# Altium schematic symbol library Pin Header WR-PHD_2.54mm.SchLib: 138 symbols (part 1 of 3)
Pins are listed as number, name and electrical type; pins without a type are passive.

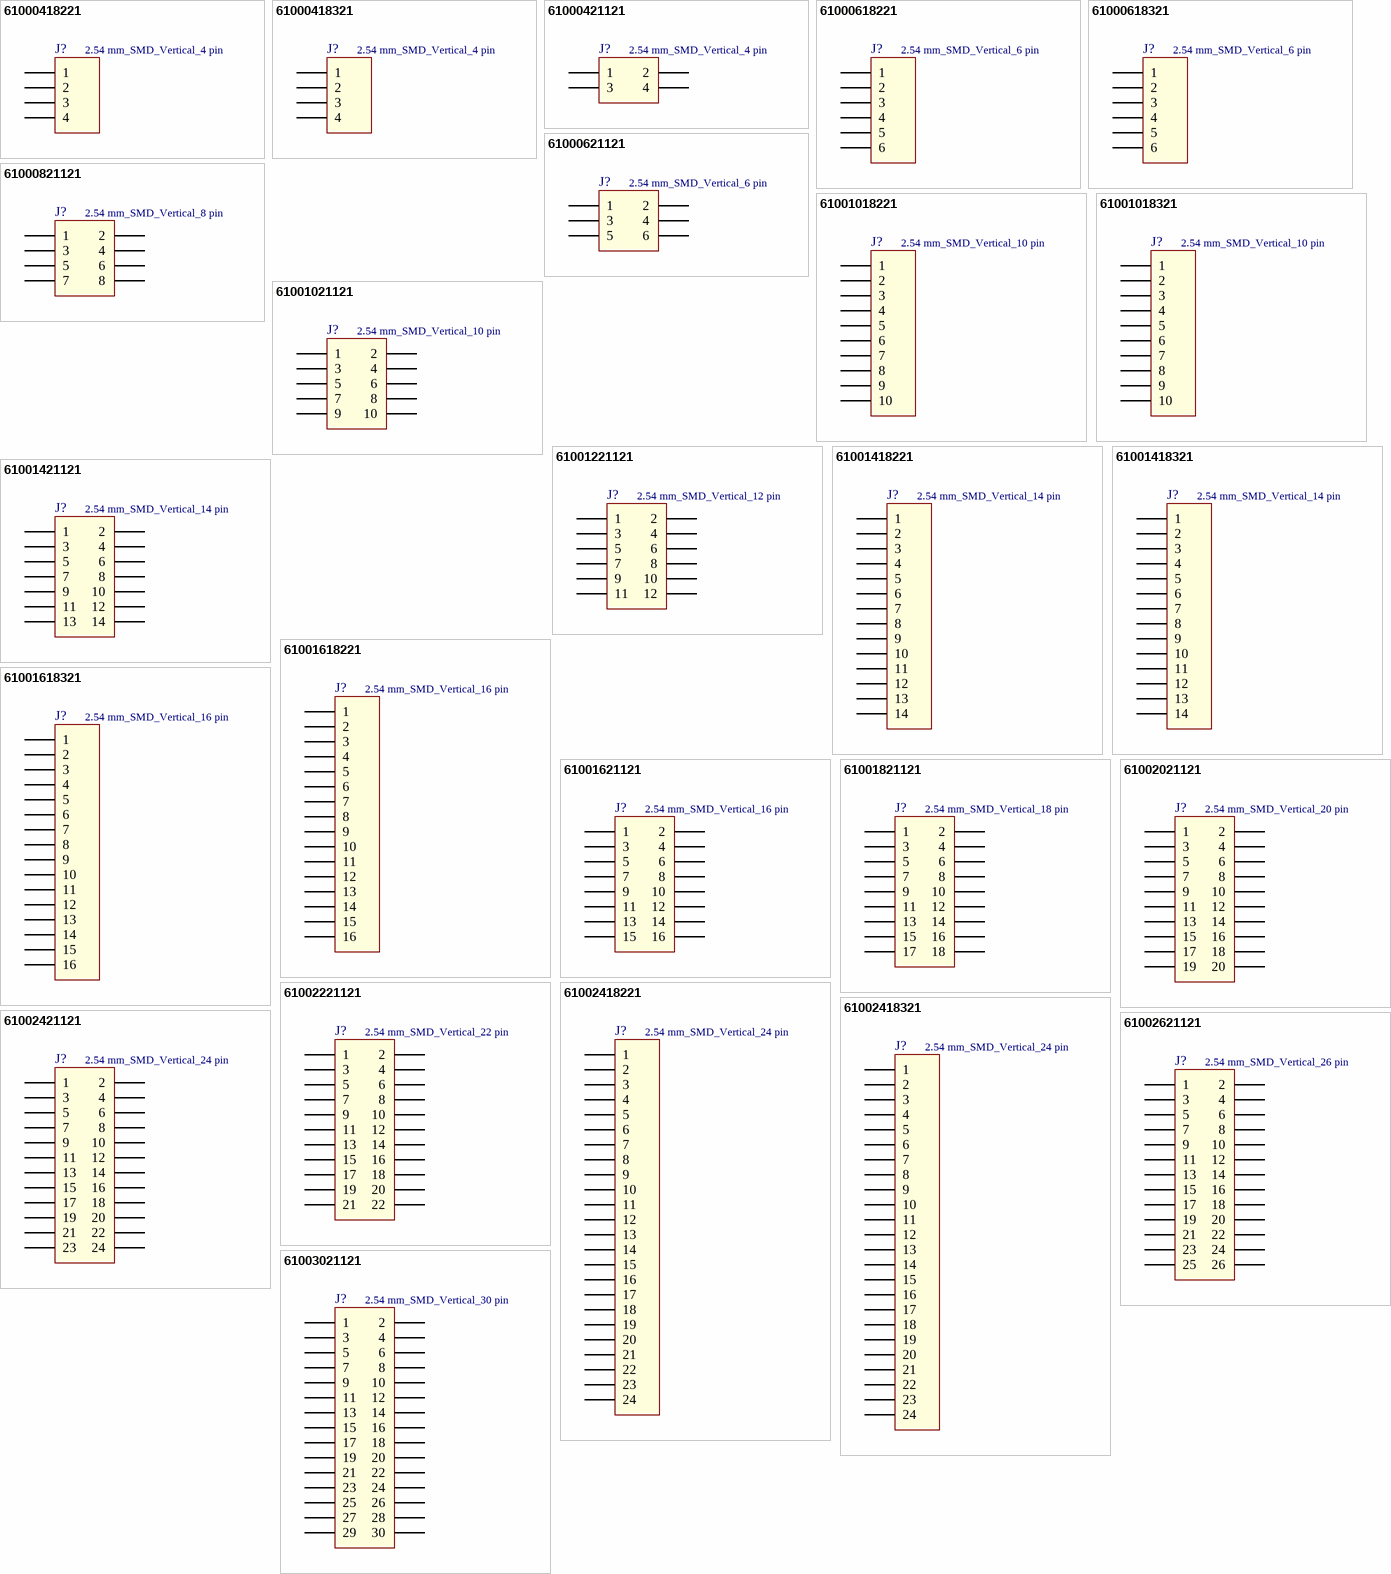
[diagram p0: symbols 61000418221 to 61003021121]

## 61000418221
designator J?, comment 2.54 mm_SMD_Vertical_4 pin
Pin Header WR-PHD, pitch 2.54 mm, SMD, Vertical, single row, 4 pin; Part Number: 61000418221; Rated Current: 3 A; Pin Number: 4; Pitch: 2.54 mm; Working Voltage: 250 VAC; Contact Resistance: 20 mOhm; Insulation Resistance: >1000 MOhm; ComponentLink1Description: Manufacturer; ComponentLink1URL: http://www.we-online.de; ComponentLink2Description: Datasheet; ComponentLink2URL: http://katalog.we-online.de/em/datasheet/6100xx18221.pdf; Published Date: Jan. 2018; Publisher: Wurth Elektronik; Operating Temperature: -40 to 105 degC; Mounting Technology: SMD; Row Number: Single; Orientation: Vertical
footprint 61000418221
pins: 1, 2, 3, 4

## 61000418321
designator J?, comment 2.54 mm_SMD_Vertical_4 pin
Pin Header WR-PHD, pitch 2.54 mm, SMD, Vertical, single row, 4 pin; Part Number: 61000418321; Rated Current: 3 A; Pin Number: 4; Pitch: 2.54 mm; Working Voltage: 250 VAC; Contact Resistance: 20 mOhm; Insulation Resistance: >1000 MOhm; ComponentLink1Description: Manufacturer; ComponentLink1URL: http://www.we-online.de; ComponentLink2Description: Datasheet; ComponentLink2URL: http://katalog.we-online.de/em/datasheet/6100xx18321.pdf; Published Date: Jan. 2018; Publisher: Wurth Elektronik; Operating Temperature: -40 to 105 degC; Mounting Technology: SMD; Row Number: Single; Orientation: Vertical
footprint 61000418321
pins: 1, 2, 3, 4

## 61000421121
designator J?, comment 2.54 mm_SMD_Vertical_4 pin
Pin Header WR-PHD, pitch 2.54 mm, SMD, Vertical, dual row, 4 pin; Part Number: 61000421121; Rated Current: 3 A; Pin Number: 4; Pitch: 2.54 mm; Working Voltage: 250 VAC; Contact Resistance: 20 mOhm; Insulation Resistance: >1000 MOhm; ComponentLink1Description: Manufacturer; ComponentLink1URL: http://www.we-online.de; ComponentLink2Description: Datasheet; ComponentLink2URL: http://katalog.we-online.de/em/datasheet/6100xx21121.pdf; Published Date: Jan. 2018; Publisher: Wurth Elektronik; Operating Temperature: -40 to 105 degC; Mounting Technology: SMD; Row Number: Dual; Orientation: Vertical
footprint 61000421121
pins: 1, 2, 3, 4

## 61000618221
designator J?, comment 2.54 mm_SMD_Vertical_6 pin
Pin Header WR-PHD, pitch 2.54 mm, SMD, Vertical, single row, 6 pin; Part Number: 61000618221; Rated Current: 3 A; Pin Number: 6; Pitch: 2.54 mm; Working Voltage: 250 VAC; Contact Resistance: 20 mOhm; Insulation Resistance: >1000 MOhm; ComponentLink1Description: Manufacturer; ComponentLink1URL: http://www.we-online.de; ComponentLink2Description: Datasheet; ComponentLink2URL: http://katalog.we-online.de/em/datasheet/6100xx18221.pdf; Published Date: Jan. 2018; Publisher: Wurth Elektronik; Operating Temperature: -40 to 105 degC; Mounting Technology: SMD; Row Number: Single; Orientation: Vertical
footprint 61000618221
pins: 1, 2, 3, 4, 5, 6

## 61000618321
designator J?, comment 2.54 mm_SMD_Vertical_6 pin
Pin Header WR-PHD, pitch 2.54 mm, SMD, Vertical, single row, 6 pin; Part Number: 61000618321; Rated Current: 3 A; Pin Number: 6; Pitch: 2.54 mm; Working Voltage: 250 VAC; Contact Resistance: 20 mOhm; Insulation Resistance: >1000 MOhm; ComponentLink1Description: Manufacturer; ComponentLink1URL: http://www.we-online.de; ComponentLink2Description: Datasheet; ComponentLink2URL: http://katalog.we-online.de/em/datasheet/6100xx18321.pdf; Published Date: Jan. 2018; Publisher: Wurth Elektronik; Operating Temperature: -40 to 105 degC; Mounting Technology: SMD; Row Number: Single; Orientation: Vertical
footprint 61000618321
pins: 1, 2, 3, 4, 5, 6

## 61000621121
designator J?, comment 2.54 mm_SMD_Vertical_6 pin
Pin Header WR-PHD, pitch 2.54 mm, SMD, Vertical, dual row, 6 pin; Part Number: 61000621121; Rated Current: 3 A; Pin Number: 6; Pitch: 2.54 mm; Working Voltage: 250 VAC; Contact Resistance: 20 mOhm; Insulation Resistance: >1000 MOhm; ComponentLink1Description: Manufacturer; ComponentLink1URL: http://www.we-online.de; ComponentLink2Description: Datasheet; ComponentLink2URL: http://katalog.we-online.de/em/datasheet/6100xx21121.pdf; Published Date: Jan. 2018; Publisher: Wurth Elektronik; Operating Temperature: -40 to 105 degC; Mounting Technology: SMD; Row Number: Dual; Orientation: Vertical
footprint 61000621121
pins: 1, 2, 3, 4, 5, 6

## 61000821121
designator J?, comment 2.54 mm_SMD_Vertical_8 pin
Pin Header WR-PHD, pitch 2.54 mm, SMD, Vertical, dual row, 8 pin; Part Number: 61000821121; Rated Current: 3 A; Pin Number: 8; Pitch: 2.54 mm; Working Voltage: 250 VAC; Contact Resistance: 20 mOhm; Insulation Resistance: >1000 MOhm; ComponentLink1Description: Manufacturer; ComponentLink1URL: http://www.we-online.de; ComponentLink2Description: Datasheet; ComponentLink2URL: http://katalog.we-online.de/em/datasheet/6100xx21121.pdf; Published Date: Jan. 2018; Publisher: Wurth Elektronik; Operating Temperature: -40 to 105 degC; Mounting Technology: SMD; Row Number: Dual; Orientation: Vertical
footprint 61000821121
pins: 1, 2, 3, 4, 5, 6, 7, 8

## 61001018221
designator J?, comment 2.54 mm_SMD_Vertical_10 pin
Pin Header WR-PHD, pitch 2.54 mm, SMD, Vertical, single row, 10 pin; Part Number: 61001018221; Rated Current: 3 A; Pin Number: 10; Pitch: 2.54 mm; Working Voltage: 250 VAC; Contact Resistance: 20 mOhm; Insulation Resistance: >1000 MOhm; ComponentLink1Description: Manufacturer; ComponentLink1URL: http://www.we-online.de; ComponentLink2Description: Datasheet; ComponentLink2URL: http://katalog.we-online.de/em/datasheet/6100xx18221.pdf; Published Date: Jan. 2018; Publisher: Wurth Elektronik; Operating Temperature: -40 to 105 degC; Mounting Technology: SMD; Row Number: Single; Orientation: Vertical
footprint 61001018221
pins: 1, 2, 3, 4, 5, 6, 7, 8, 9, 10

## 61001018321
designator J?, comment 2.54 mm_SMD_Vertical_10 pin
Pin Header WR-PHD, pitch 2.54 mm, SMD, Vertical, single row, 10 pin; Part Number: 61001018321; Rated Current: 3 A; Pin Number: 10; Pitch: 2.54 mm; Working Voltage: 250 VAC; Contact Resistance: 20 mOhm; Insulation Resistance: >1000 MOhm; ComponentLink1Description: Manufacturer; ComponentLink1URL: http://www.we-online.de; ComponentLink2Description: Datasheet; ComponentLink2URL: http://katalog.we-online.de/em/datasheet/6100xx18321.pdf; Published Date: Jan. 2018; Publisher: Wurth Elektronik; Operating Temperature: -40 to 105 degC; Mounting Technology: SMD; Row Number: Single; Orientation: Vertical
footprint 61001018321
pins: 1, 2, 3, 4, 5, 6, 7, 8, 9, 10

## 61001021121
designator J?, comment 2.54 mm_SMD_Vertical_10 pin
Pin Header WR-PHD, pitch 2.54 mm, SMD, Vertical, dual row, 10 pin; Part Number: 61001021121; Rated Current: 3 A; Pin Number: 10; Pitch: 2.54 mm; Working Voltage: 250 VAC; Contact Resistance: 20 mOhm; Insulation Resistance: >1000 MOhm; ComponentLink1Description: Manufacturer; ComponentLink1URL: http://www.we-online.de; ComponentLink2Description: Datasheet; ComponentLink2URL: http://katalog.we-online.de/em/datasheet/6100xx21121.pdf; Published Date: Jan. 2018; Publisher: Wurth Elektronik; Operating Temperature: -40 to 105 degC; Mounting Technology: SMD; Row Number: Dual; Orientation: Vertical
footprint 61001021121
pins: 1, 2, 3, 4, 5, 6, 7, 8, 9, 10

## 61001221121
designator J?, comment 2.54 mm_SMD_Vertical_12 pin
Pin Header WR-PHD, pitch 2.54 mm, SMD, Vertical, dual row, 12 pin; Part Number: 61001221121; Rated Current: 3 A; Pin Number: 12; Pitch: 2.54 mm; Working Voltage: 250 VAC; Contact Resistance: 20 mOhm; Insulation Resistance: >1000 MOhm; ComponentLink1Description: Manufacturer; ComponentLink1URL: http://www.we-online.de; ComponentLink2Description: Datasheet; ComponentLink2URL: http://katalog.we-online.de/em/datasheet/6100xx21121.pdf; Published Date: Jan. 2018; Publisher: Wurth Elektronik; Operating Temperature: -40 to 105 degC; Mounting Technology: SMD; Row Number: Dual; Orientation: Vertical
footprint 61001221121
pins: 1, 2, 3, 4, 5, 6, 7, 8, 9, 10, 11, 12

## 61001418221
designator J?, comment 2.54 mm_SMD_Vertical_14 pin
Pin Header WR-PHD, pitch 2.54 mm, SMD, Vertical, single row, 14 pin; Part Number: 61001418221; Rated Current: 3 A; Pin Number: 14; Pitch: 2.54 mm; Working Voltage: 250 VAC; Contact Resistance: 20 mOhm; Insulation Resistance: >1000 MOhm; ComponentLink1Description: Manufacturer; ComponentLink1URL: http://www.we-online.de; ComponentLink2Description: Datasheet; ComponentLink2URL: http://katalog.we-online.de/em/datasheet/6100xx18221.pdf; Published Date: Jan. 2018; Publisher: Wurth Elektronik; Operating Temperature: -40 to 105 degC; Mounting Technology: SMD; Row Number: Single; Orientation: Vertical
footprint 61001418221
pins: 1, 2, 3, 4, 5, 6, 7, 8, 9, 10, 11, 12, 13, 14

## 61001418321
designator J?, comment 2.54 mm_SMD_Vertical_14 pin
Pin Header WR-PHD, pitch 2.54 mm, SMD, Vertical, single row, 14 pin; Part Number: 61001418321; Rated Current: 3 A; Pin Number: 14; Pitch: 2.54 mm; Working Voltage: 250 VAC; Contact Resistance: 20 mOhm; Insulation Resistance: >1000 MOhm; ComponentLink1Description: Manufacturer; ComponentLink1URL: http://www.we-online.de; ComponentLink2Description: Datasheet; ComponentLink2URL: http://katalog.we-online.de/em/datasheet/6100xx18321.pdf; Published Date: Jan. 2018; Publisher: Wurth Elektronik; Operating Temperature: -40 to 105 degC; Mounting Technology: SMD; Row Number: Single; Orientation: Vertical
footprint 61001418321
pins: 1, 2, 3, 4, 5, 6, 7, 8, 9, 10, 11, 12, 13, 14

## 61001421121
designator J?, comment 2.54 mm_SMD_Vertical_14 pin
Pin Header WR-PHD, pitch 2.54 mm, SMD, Vertical, dual row, 14 pin; Part Number: 61001421121; Rated Current: 3 A; Pin Number: 14; Pitch: 2.54 mm; Working Voltage: 250 VAC; Contact Resistance: 20 mOhm; Insulation Resistance: >1000 MOhm; ComponentLink1Description: Manufacturer; ComponentLink1URL: http://www.we-online.de; ComponentLink2Description: Datasheet; ComponentLink2URL: http://katalog.we-online.de/em/datasheet/6100xx21121.pdf; Published Date: Jan. 2018; Publisher: Wurth Elektronik; Operating Temperature: -40 to 105 degC; Mounting Technology: SMD; Row Number: Dual; Orientation: Vertical
footprint 61001421121
pins: 1, 2, 3, 4, 5, 6, 7, 8, 9, 10, 11, 12, 13, 14

## 61001618221
designator J?, comment 2.54 mm_SMD_Vertical_16 pin
Pin Header WR-PHD, pitch 2.54 mm, SMD, Vertical, single row, 16 pin; Part Number: 61001618221; Rated Current: 3 A; Pin Number: 16; Pitch: 2.54 mm; Working Voltage: 250 VAC; Contact Resistance: 20 mOhm; Insulation Resistance: >1000 MOhm; ComponentLink1Description: Manufacturer; ComponentLink1URL: http://www.we-online.de; ComponentLink2Description: Datasheet; ComponentLink2URL: http://katalog.we-online.de/em/datasheet/6100xx18221.pdf; Published Date: Jan. 2018; Publisher: Wurth Elektronik; Operating Temperature: -40 to 105 degC; Mounting Technology: SMD; Row Number: Single; Orientation: Vertical
footprint 61001618221
pins: 1, 2, 3, 4, 5, 6, 7, 8, 9, 10, 11, 12, 13, 14, 15, 16

## 61001618321
designator J?, comment 2.54 mm_SMD_Vertical_16 pin
Pin Header WR-PHD, pitch 2.54 mm, SMD, Vertical, single row, 16 pin; Part Number: 61001618321; Rated Current: 3 A; Pin Number: 16; Pitch: 2.54 mm; Working Voltage: 250 VAC; Contact Resistance: 20 mOhm; Insulation Resistance: >1000 MOhm; ComponentLink1Description: Manufacturer; ComponentLink1URL: http://www.we-online.de; ComponentLink2Description: Datasheet; ComponentLink2URL: http://katalog.we-online.de/em/datasheet/6100xx18321.pdf; Published Date: Jan. 2018; Publisher: Wurth Elektronik; Operating Temperature: -40 to 105 degC; Mounting Technology: SMD; Row Number: Single; Orientation: Vertical
footprint 61001618321
pins: 1, 2, 3, 4, 5, 6, 7, 8, 9, 10, 11, 12, 13, 14, 15, 16

## 61001621121
designator J?, comment 2.54 mm_SMD_Vertical_16 pin
Pin Header WR-PHD, pitch 2.54 mm, SMD, Vertical, dual row, 16 pin; Part Number: 61001621121; Rated Current: 3 A; Pin Number: 16; Pitch: 2.54 mm; Working Voltage: 250 VAC; Contact Resistance: 20 mOhm; Insulation Resistance: >1000 MOhm; ComponentLink1Description: Manufacturer; ComponentLink1URL: http://www.we-online.de; ComponentLink2Description: Datasheet; ComponentLink2URL: http://katalog.we-online.de/em/datasheet/6100xx21121.pdf; Published Date: Jan. 2018; Publisher: Wurth Elektronik; Operating Temperature: -40 to 105 degC; Mounting Technology: SMD; Row Number: Dual; Orientation: Vertical
footprint 61001621121
pins: 1, 2, 3, 4, 5, 6, 7, 8, 9, 10, 11, 12, 13, 14, 15, 16

## 61001821121
designator J?, comment 2.54 mm_SMD_Vertical_18 pin
Pin Header WR-PHD, pitch 2.54 mm, SMD, Vertical, dual row, 18 pin; Part Number: 61001821121; Rated Current: 3 A; Pin Number: 18; Pitch: 2.54 mm; Working Voltage: 250 VAC; Contact Resistance: 20 mOhm; Insulation Resistance: >1000 MOhm; ComponentLink1Description: Manufacturer; ComponentLink1URL: http://www.we-online.de; ComponentLink2Description: Datasheet; ComponentLink2URL: http://katalog.we-online.de/em/datasheet/6100xx21121.pdf; Published Date: Jan. 2018; Publisher: Wurth Elektronik; Operating Temperature: -40 to 105 degC; Mounting Technology: SMD; Row Number: Dual; Orientation: Vertical
footprint 61001821121
pins: 1, 2, 3, 4, 5, 6, 7, 8, 9, 10, 11, 12, 13, 14, 15, 16, 17, 18

## 61002021121
designator J?, comment 2.54 mm_SMD_Vertical_20 pin
Pin Header WR-PHD, pitch 2.54 mm, SMD, Vertical, dual row, 20 pin; Part Number: 61002021121; Rated Current: 3 A; Pin Number: 20; Pitch: 2.54 mm; Working Voltage: 250 VAC; Contact Resistance: 20 mOhm; Insulation Resistance: >1000 MOhm; ComponentLink1Description: Manufacturer; ComponentLink1URL: http://www.we-online.de; ComponentLink2Description: Datasheet; ComponentLink2URL: http://katalog.we-online.de/em/datasheet/6100xx21121.pdf; Published Date: Jan. 2018; Publisher: Wurth Elektronik; Operating Temperature: -40 to 105 degC; Mounting Technology: SMD; Row Number: Dual; Orientation: Vertical
footprint 61002021121
pins: 1, 2, 3, 4, 5, 6, 7, 8, 9, 10, 11, 12, 13, 14, 15, 16, 17, 18, 19, 20

## 61002221121
designator J?, comment 2.54 mm_SMD_Vertical_22 pin
Pin Header WR-PHD, pitch 2.54 mm, SMD, Vertical, dual row, 22 pin; Part Number: 61002221121; Rated Current: 3 A; Pin Number: 22; Pitch: 2.54 mm; Working Voltage: 250 VAC; Contact Resistance: 20 mOhm; Insulation Resistance: >1000 MOhm; ComponentLink1Description: Manufacturer; ComponentLink1URL: http://www.we-online.de; ComponentLink2Description: Datasheet; ComponentLink2URL: http://katalog.we-online.de/em/datasheet/6100xx21121.pdf; Published Date: Jan. 2018; Publisher: Wurth Elektronik; Operating Temperature: -40 to 105 degC; Mounting Technology: SMD; Row Number: Dual; Orientation: Vertical
footprint 61002221121
pins: 1, 2, 3, 4, 5, 6, 7, 8, 9, 10, 11, 12, 13, 14, 15, 16, 17, 18, 19, 20, 21, 22

## 61002418221
designator J?, comment 2.54 mm_SMD_Vertical_24 pin
Pin Header WR-PHD, pitch 2.54 mm, SMD, Vertical, single row, 24 pin; Part Number: 61002418221; Rated Current: 3 A; Pin Number: 24; Pitch: 2.54 mm; Working Voltage: 250 VAC; Contact Resistance: 20 mOhm; Insulation Resistance: >1000 MOhm; ComponentLink1Description: Manufacturer; ComponentLink1URL: http://www.we-online.de; ComponentLink2Description: Datasheet; ComponentLink2URL: http://katalog.we-online.de/em/datasheet/6100xx18221.pdf; Published Date: Jan. 2018; Publisher: Wurth Elektronik; Operating Temperature: -40 to 105 degC; Mounting Technology: SMD; Row Number: Single; Orientation: Vertical
footprint 61002418221
pins: 1, 2, 3, 4, 5, 6, 7, 8, 9, 10, 11, 12, 13, 14, 15, 16, 17, 18, 19, 20, 21, 22, 23, 24

## 61002418321
designator J?, comment 2.54 mm_SMD_Vertical_24 pin
Pin Header WR-PHD, pitch 2.54 mm, SMD, Vertical, single row, 24 pin; Part Number: 61002418321; Rated Current: 3 A; Pin Number: 24; Pitch: 2.54 mm; Working Voltage: 250 VAC; Contact Resistance: 20 mOhm; Insulation Resistance: >1000 MOhm; ComponentLink1Description: Manufacturer; ComponentLink1URL: http://www.we-online.de; ComponentLink2Description: Datasheet; ComponentLink2URL: http://katalog.we-online.de/em/datasheet/6100xx18321.pdf; Published Date: Jan. 2018; Publisher: Wurth Elektronik; Operating Temperature: -40 to 105 degC; Mounting Technology: SMD; Row Number: Single; Orientation: Vertical
footprint 61002418321
pins: 1, 2, 3, 4, 5, 6, 7, 8, 9, 10, 11, 12, 13, 14, 15, 16, 17, 18, 19, 20, 21, 22, 23, 24

## 61002421121
designator J?, comment 2.54 mm_SMD_Vertical_24 pin
Pin Header WR-PHD, pitch 2.54 mm, SMD, Vertical, dual row, 24 pin; Part Number: 61002421121; Rated Current: 3 A; Pin Number: 24; Pitch: 2.54 mm; Working Voltage: 250 VAC; Contact Resistance: 20 mOhm; Insulation Resistance: >1000 MOhm; ComponentLink1Description: Manufacturer; ComponentLink1URL: http://www.we-online.de; ComponentLink2Description: Datasheet; ComponentLink2URL: http://katalog.we-online.de/em/datasheet/6100xx21121.pdf; Published Date: Jan. 2018; Publisher: Wurth Elektronik; Operating Temperature: -40 to 105 degC; Mounting Technology: SMD; Row Number: Dual; Orientation: Vertical
footprint 61002421121
pins: 1, 2, 3, 4, 5, 6, 7, 8, 9, 10, 11, 12, 13, 14, 15, 16, 17, 18, 19, 20, 21, 22, 23, 24

## 61002621121
designator J?, comment 2.54 mm_SMD_Vertical_26 pin
Pin Header WR-PHD, pitch 2.54 mm, SMD, Vertical, dual row, 26 pin; Part Number: 61002621121; Rated Current: 3 A; Pin Number: 26; Pitch: 2.54 mm; Working Voltage: 250 VAC; Contact Resistance: 20 mOhm; Insulation Resistance: >1000 MOhm; ComponentLink1Description: Manufacturer; ComponentLink1URL: http://www.we-online.de; ComponentLink2Description: Datasheet; ComponentLink2URL: http://katalog.we-online.de/em/datasheet/6100xx21121.pdf; Published Date: Jan. 2018; Publisher: Wurth Elektronik; Operating Temperature: -40 to 105 degC; Mounting Technology: SMD; Row Number: Dual; Orientation: Vertical
footprint 61002621121
pins: 1, 2, 3, 4, 5, 6, 7, 8, 9, 10, 11, 12, 13, 14, 15, 16, 17, 18, 19, 20, 21, 22, 23, 24, 25, 26

## 61003021121
designator J?, comment 2.54 mm_SMD_Vertical_30 pin
Pin Header WR-PHD, pitch 2.54 mm, SMD, Vertical, dual row, 30 pin; Part Number: 61003021121; Rated Current: 3 A; Pin Number: 30; Pitch: 2.54 mm; Working Voltage: 250 VAC; Contact Resistance: 20 mOhm; Insulation Resistance: >1000 MOhm; ComponentLink1Description: Manufacturer; ComponentLink1URL: http://www.we-online.de; ComponentLink2Description: Datasheet; ComponentLink2URL: http://katalog.we-online.de/em/datasheet/6100xx21121.pdf; Published Date: Jan. 2018; Publisher: Wurth Elektronik; Operating Temperature: -40 to 105 degC; Mounting Technology: SMD; Row Number: Dual; Orientation: Vertical
footprint 61003021121
pins: 1, 2, 3, 4, 5, 6, 7, 8, 9, 10, 11, 12, 13, 14, 15, 16, 17, 18, 19, 20, 21, 22, 23, 24, 25, 26, 27, 28, 29, 30

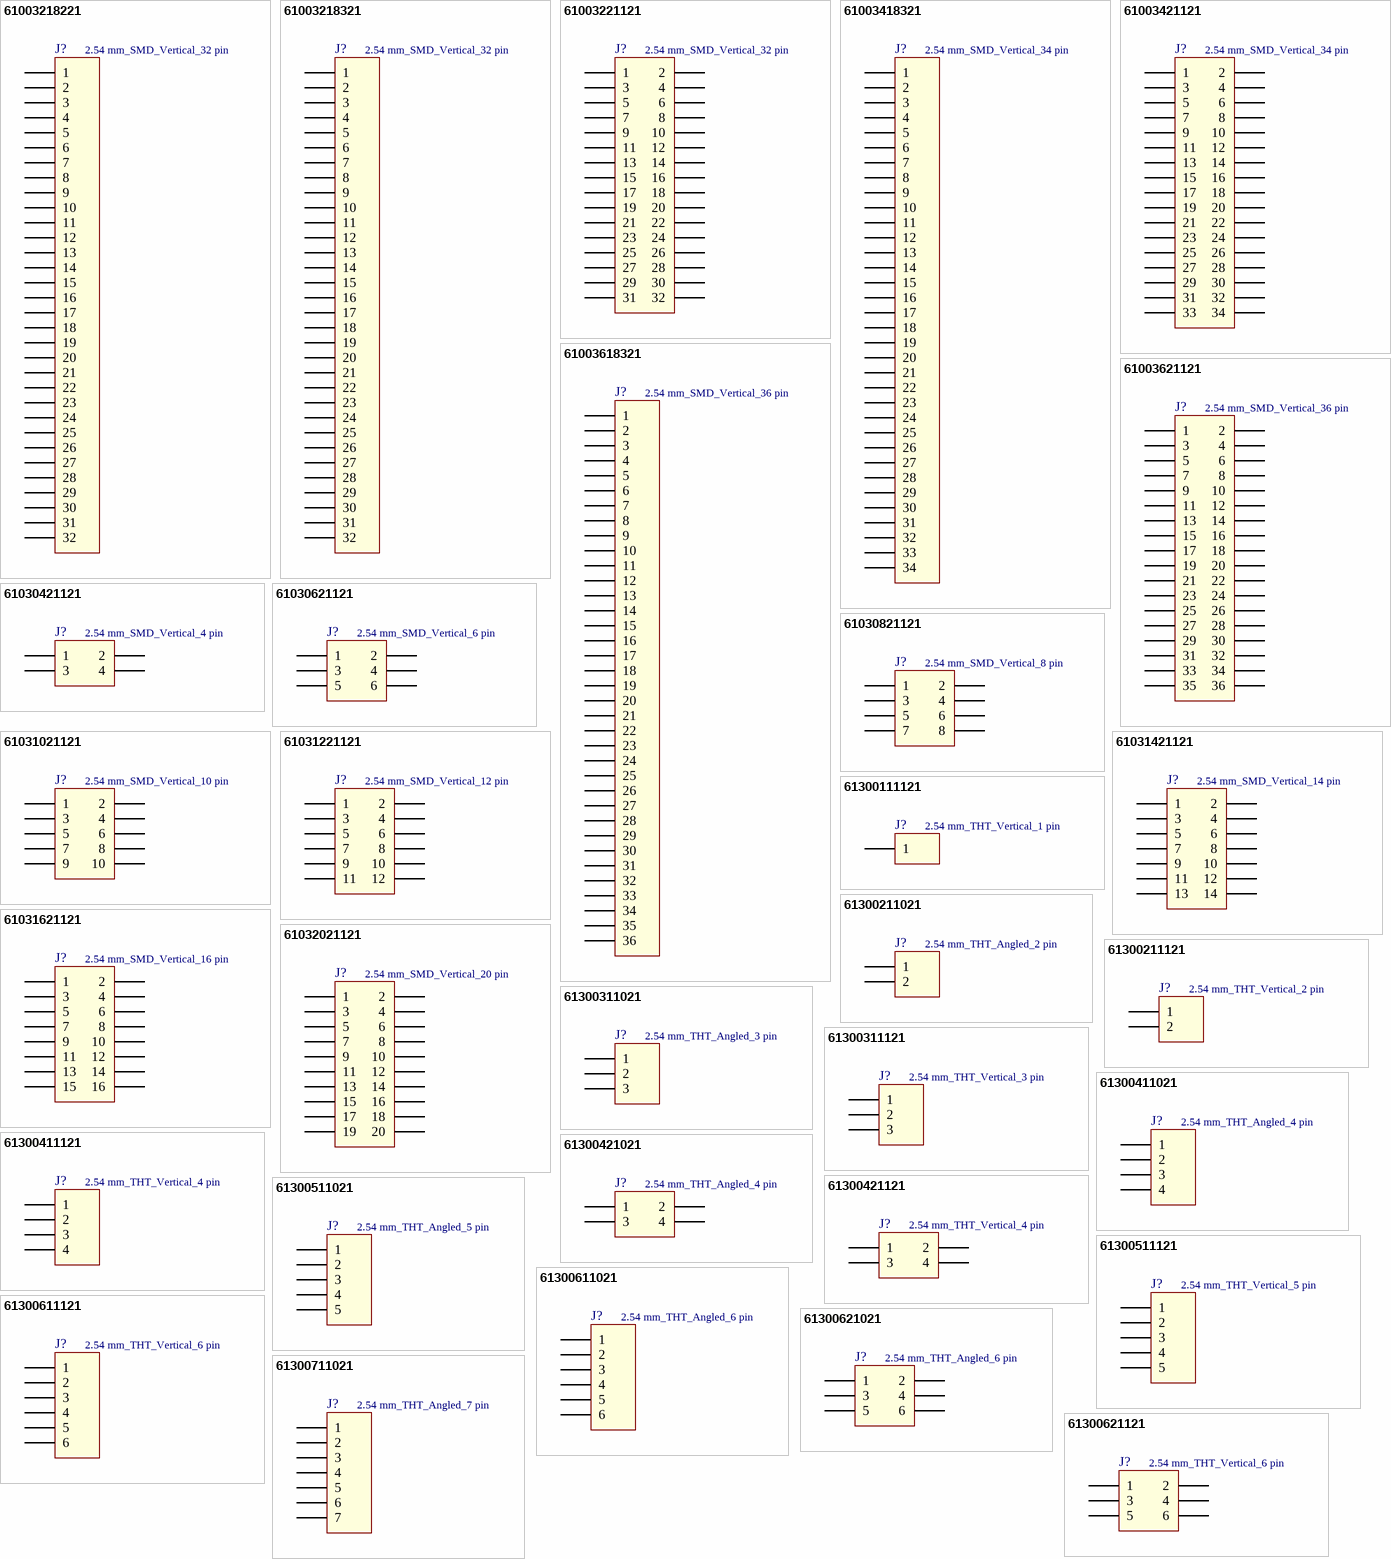
[diagram p1: symbols 61003218221 to 61300711021]

## 61003218221
designator J?, comment 2.54 mm_SMD_Vertical_32 pin
Pin Header WR-PHD, pitch 2.54 mm, SMD, Vertical, single row, 32 pin; Part Number: 61003218221; Rated Current: 3 A; Pin Number: 32; Pitch: 2.54 mm; Working Voltage: 250 VAC; Contact Resistance: 20 mOhm; Insulation Resistance: >1000 MOhm; ComponentLink1Description: Manufacturer; ComponentLink1URL: http://www.we-online.de; ComponentLink2Description: Datasheet; ComponentLink2URL: http://katalog.we-online.de/em/datasheet/6100xx18221.pdf; Published Date: Jan. 2018; Publisher: Wurth Elektronik; Operating Temperature: -40 to 105 degC; Mounting Technology: SMD; Row Number: Single; Orientation: Vertical
footprint 61003218221
pins: 1, 2, 3, 4, 5, 6, 7, 8, 9, 10, 11, 12, 13, 14, 15, 16, 17, 18, 19, 20, 21, 22, 23, 24, 25, 26, 27, 28, 29, 30, 31, 32

## 61003218321
designator J?, comment 2.54 mm_SMD_Vertical_32 pin
Pin Header WR-PHD, pitch 2.54 mm, SMD, Vertical, single row, 32 pin; Part Number: 61003218321; Rated Current: 3 A; Pin Number: 32; Pitch: 2.54 mm; Working Voltage: 250 VAC; Contact Resistance: 20 mOhm; Insulation Resistance: >1000 MOhm; ComponentLink1Description: Manufacturer; ComponentLink1URL: http://www.we-online.de; ComponentLink2Description: Datasheet; ComponentLink2URL: http://katalog.we-online.de/em/datasheet/6100xx18321.pdf; Published Date: Jan. 2018; Publisher: Wurth Elektronik; Operating Temperature: -40 to 105 degC; Mounting Technology: SMD; Row Number: Single; Orientation: Vertical
footprint 61003218321
pins: 1, 2, 3, 4, 5, 6, 7, 8, 9, 10, 11, 12, 13, 14, 15, 16, 17, 18, 19, 20, 21, 22, 23, 24, 25, 26, 27, 28, 29, 30, 31, 32

## 61003221121
designator J?, comment 2.54 mm_SMD_Vertical_32 pin
Pin Header WR-PHD, pitch 2.54 mm, SMD, Vertical, dual row, 32 pin; Part Number: 61003221121; Rated Current: 3 A; Pin Number: 32; Pitch: 2.54 mm; Working Voltage: 250 VAC; Contact Resistance: 20 mOhm; Insulation Resistance: >1000 MOhm; ComponentLink1Description: Manufacturer; ComponentLink1URL: http://www.we-online.de; ComponentLink2Description: Datasheet; ComponentLink2URL: http://katalog.we-online.de/em/datasheet/6100xx21121.pdf; Published Date: Jan. 2018; Publisher: Wurth Elektronik; Operating Temperature: -40 to 105 degC; Mounting Technology: SMD; Row Number: Dual; Orientation: Vertical
footprint 61003221121
pins: 1, 2, 3, 4, 5, 6, 7, 8, 9, 10, 11, 12, 13, 14, 15, 16, 17, 18, 19, 20, 21, 22, 23, 24, 25, 26, 27, 28, 29, 30, 31, 32

## 61003418321
designator J?, comment 2.54 mm_SMD_Vertical_34 pin
Pin Header WR-PHD, pitch 2.54 mm, SMD, Vertical, single row, 34 pin; Part Number: 61003418321; Rated Current: 3 A; Pin Number: 34; Pitch: 2.54 mm; Working Voltage: 250 VAC; Contact Resistance: 20 mOhm; Insulation Resistance: >1000 MOhm; ComponentLink1Description: Manufacturer; ComponentLink1URL: http://www.we-online.de; ComponentLink2Description: Datasheet; ComponentLink2URL: http://katalog.we-online.de/em/datasheet/6100xx18321.pdf; Published Date: Jan. 2018; Publisher: Wurth Elektronik; Operating Temperature: -40 to 105 degC; Mounting Technology: SMD; Row Number: Single; Orientation: Vertical
footprint 61003418321
pins: 1, 2, 3, 4, 5, 6, 7, 8, 9, 10, 11, 12, 13, 14, 15, 16, 17, 18, 19, 20, 21, 22, 23, 24, 25, 26, 27, 28, 29, 30, 31, 32, 33, 34

## 61003421121
designator J?, comment 2.54 mm_SMD_Vertical_34 pin
Pin Header WR-PHD, pitch 2.54 mm, SMD, Vertical, dual row, 34 pin; Part Number: 61003421121; Rated Current: 3 A; Pin Number: 34; Pitch: 2.54 mm; Working Voltage: 250 VAC; Contact Resistance: 20 mOhm; Insulation Resistance: >1000 MOhm; ComponentLink1Description: Manufacturer; ComponentLink1URL: http://www.we-online.de; ComponentLink2Description: Datasheet; ComponentLink2URL: http://katalog.we-online.de/em/datasheet/6100xx21121.pdf; Published Date: Jan. 2018; Publisher: Wurth Elektronik; Operating Temperature: -40 to 105 degC; Mounting Technology: SMD; Row Number: Dual; Orientation: Vertical
footprint 61003421121
pins: 1, 2, 3, 4, 5, 6, 7, 8, 9, 10, 11, 12, 13, 14, 15, 16, 17, 18, 19, 20, 21, 22, 23, 24, 25, 26, 27, 28, 29, 30, 31, 32, 33, 34

## 61003618321
designator J?, comment 2.54 mm_SMD_Vertical_36 pin
Pin Header WR-PHD, pitch 2.54 mm, SMD, Vertical, single row, 36 pin; Part Number: 61003618321; Rated Current: 3 A; Pin Number: 36; Pitch: 2.54 mm; Working Voltage: 250 VAC; Contact Resistance: 20 mOhm; Insulation Resistance: >1000 MOhm; ComponentLink1Description: Manufacturer; ComponentLink1URL: http://www.we-online.de; ComponentLink2Description: Datasheet; ComponentLink2URL: http://katalog.we-online.de/em/datasheet/6100xx18321.pdf; Published Date: Jan. 2018; Publisher: Wurth Elektronik; Operating Temperature: -40 to 105 degC; Mounting Technology: SMD; Row Number: Single; Orientation: Vertical
footprint 61003618321
pins: 1, 2, 3, 4, 5, 6, 7, 8, 9, 10, 11, 12, 13, 14, 15, 16, 17, 18, 19, 20, 21, 22, 23, 24, 25, 26, 27, 28, 29, 30, 31, 32, 33, 34, 35, 36

## 61003621121
designator J?, comment 2.54 mm_SMD_Vertical_36 pin
Pin Header WR-PHD, pitch 2.54 mm, SMD, Vertical, dual row, 36 pin; Part Number: 61003621121; Rated Current: 3 A; Pin Number: 36; Pitch: 2.54 mm; Working Voltage: 250 VAC; Contact Resistance: 20 mOhm; Insulation Resistance: >1000 MOhm; ComponentLink1Description: Manufacturer; ComponentLink1URL: http://www.we-online.de; ComponentLink2Description: Datasheet; ComponentLink2URL: http://katalog.we-online.de/em/datasheet/6100xx21121.pdf; Published Date: Jan. 2018; Publisher: Wurth Elektronik; Operating Temperature: -40 to 105 degC; Mounting Technology: SMD; Row Number: Dual; Orientation: Vertical
footprint 61003621121
pins: 1, 2, 3, 4, 5, 6, 7, 8, 9, 10, 11, 12, 13, 14, 15, 16, 17, 18, 19, 20, 21, 22, 23, 24, 25, 26, 27, 28, 29, 30, 31, 32, 33, 34, 35, 36

## 61030421121
designator J?, comment 2.54 mm_SMD_Vertical_4 pin
Pin Header WR-PHD, pitch 2.54 mm, SMD, Vertical, dual row, 4 pin; Part Number: 61030421121; Rated Current: 3 A; Pin Number: 4; Pitch: 2.54 mm; Working Voltage: 250 VAC; Contact Resistance: 20 mOhm; Insulation Resistance: >1000 MOhm; ComponentLink1Description: Manufacturer; ComponentLink1URL: http://www.we-online.de; ComponentLink2Description: Datasheet; ComponentLink2URL: http://katalog.we-online.de/em/datasheet/6103xx21121.pdf; Published Date: Jan. 2018; Publisher: Wurth Elektronik; Operating Temperature: -40 to 125 degC; Mounting Technology: SMD; Row Number: Dual; Orientation: Vertical
footprint 61030421121
pins: 1, 2, 3, 4

## 61030621121
designator J?, comment 2.54 mm_SMD_Vertical_6 pin
Pin Header WR-PHD, pitch 2.54 mm, SMD, Vertical, dual row, 6 pin; Part Number: 61030621121; Rated Current: 3 A; Pin Number: 6; Pitch: 2.54 mm; Working Voltage: 250 VAC; Contact Resistance: 20 mOhm; Insulation Resistance: >1000 MOhm; ComponentLink1Description: Manufacturer; ComponentLink1URL: http://www.we-online.de; ComponentLink2Description: Datasheet; ComponentLink2URL: http://katalog.we-online.de/em/datasheet/6103xx21121.pdf; Published Date: Jan. 2018; Publisher: Wurth Elektronik; Operating Temperature: -40 to 125 degC; Mounting Technology: SMD; Row Number: Dual; Orientation: Vertical
footprint 61030621121
pins: 1, 2, 3, 4, 5, 6

## 61030821121
designator J?, comment 2.54 mm_SMD_Vertical_8 pin
Pin Header WR-PHD, pitch 2.54 mm, SMD, Vertical, dual row, 8 pin; Part Number: 61030821121; Rated Current: 3 A; Pin Number: 8; Pitch: 2.54 mm; Working Voltage: 250 VAC; Contact Resistance: 20 mOhm; Insulation Resistance: >1000 MOhm; ComponentLink1Description: Manufacturer; ComponentLink1URL: http://www.we-online.de; ComponentLink2Description: Datasheet; ComponentLink2URL: http://katalog.we-online.de/em/datasheet/6103xx21121.pdf; Published Date: Jan. 2018; Publisher: Wurth Elektronik; Operating Temperature: -40 to 125 degC; Mounting Technology: SMD; Row Number: Dual; Orientation: Vertical
footprint 61030821121
pins: 1, 2, 3, 4, 5, 6, 7, 8

## 61031021121
designator J?, comment 2.54 mm_SMD_Vertical_10 pin
Pin Header WR-PHD, pitch 2.54 mm, SMD, Vertical, dual row, 10 pin; Part Number: 61031021121; Rated Current: 3 A; Pin Number: 10; Pitch: 2.54 mm; Working Voltage: 250 VAC; Contact Resistance: 20 mOhm; Insulation Resistance: >1000 MOhm; ComponentLink1Description: Manufacturer; ComponentLink1URL: http://www.we-online.de; ComponentLink2Description: Datasheet; ComponentLink2URL: http://katalog.we-online.de/em/datasheet/6103xx21121.pdf; Published Date: Jan. 2018; Publisher: Wurth Elektronik; Operating Temperature: -40 to 125 degC; Mounting Technology: SMD; Row Number: Dual; Orientation: Vertical
footprint 61031021121
pins: 1, 2, 3, 4, 5, 6, 7, 8, 9, 10

## 61031221121
designator J?, comment 2.54 mm_SMD_Vertical_12 pin
Pin Header WR-PHD, pitch 2.54 mm, SMD, Vertical, dual row, 12 pin; Part Number: 61031221121; Rated Current: 3 A; Pin Number: 12; Pitch: 2.54 mm; Working Voltage: 250 VAC; Contact Resistance: 20 mOhm; Insulation Resistance: >1000 MOhm; ComponentLink1Description: Manufacturer; ComponentLink1URL: http://www.we-online.de; ComponentLink2Description: Datasheet; ComponentLink2URL: http://katalog.we-online.de/em/datasheet/6103xx21121.pdf; Published Date: Jan. 2018; Publisher: Wurth Elektronik; Operating Temperature: -40 to 125 degC; Mounting Technology: SMD; Row Number: Dual; Orientation: Vertical
footprint 61031221121
pins: 1, 2, 3, 4, 5, 6, 7, 8, 9, 10, 11, 12

## 61031421121
designator J?, comment 2.54 mm_SMD_Vertical_14 pin
Pin Header WR-PHD, pitch 2.54 mm, SMD, Vertical, dual row, 14 pin; Part Number: 61031421121; Rated Current: 3 A; Pin Number: 14; Pitch: 2.54 mm; Working Voltage: 250 VAC; Contact Resistance: 20 mOhm; Insulation Resistance: >1000 MOhm; ComponentLink1Description: Manufacturer; ComponentLink1URL: http://www.we-online.de; ComponentLink2Description: Datasheet; ComponentLink2URL: http://katalog.we-online.de/em/datasheet/6103xx21121.pdf; Published Date: Jan. 2018; Publisher: Wurth Elektronik; Operating Temperature: -40 to 125 degC; Mounting Technology: SMD; Row Number: Dual; Orientation: Vertical
footprint 61031421121
pins: 1, 2, 3, 4, 5, 6, 7, 8, 9, 10, 11, 12, 13, 14

## 61031621121
designator J?, comment 2.54 mm_SMD_Vertical_16 pin
Pin Header WR-PHD, pitch 2.54 mm, SMD, Vertical, dual row, 16 pin; Part Number: 61031621121; Rated Current: 3 A; Pin Number: 16; Pitch: 2.54 mm; Working Voltage: 250 VAC; Contact Resistance: 20 mOhm; Insulation Resistance: >1000 MOhm; ComponentLink1Description: Manufacturer; ComponentLink1URL: http://www.we-online.de; ComponentLink2Description: Datasheet; ComponentLink2URL: http://katalog.we-online.de/em/datasheet/6103xx21121.pdf; Published Date: Jan. 2018; Publisher: Wurth Elektronik; Operating Temperature: -40 to 125 degC; Mounting Technology: SMD; Row Number: Dual; Orientation: Vertical
footprint 61031621121
pins: 1, 2, 3, 4, 5, 6, 7, 8, 9, 10, 11, 12, 13, 14, 15, 16

## 61032021121
designator J?, comment 2.54 mm_SMD_Vertical_20 pin
Pin Header WR-PHD, pitch 2.54 mm, SMD, Vertical, dual row, 20 pin; Part Number: 61032021121; Rated Current: 3 A; Pin Number: 20; Pitch: 2.54 mm; Working Voltage: 250 VAC; Contact Resistance: 20 mOhm; Insulation Resistance: >1000 MOhm; ComponentLink1Description: Manufacturer; ComponentLink1URL: http://www.we-online.de; ComponentLink2Description: Datasheet; ComponentLink2URL: http://katalog.we-online.de/em/datasheet/6103xx21121.pdf; Published Date: Jan. 2018; Publisher: Wurth Elektronik; Operating Temperature: -40 to 125 degC; Mounting Technology: SMD; Row Number: Dual; Orientation: Vertical
footprint 61032021121
pins: 1, 2, 3, 4, 5, 6, 7, 8, 9, 10, 11, 12, 13, 14, 15, 16, 17, 18, 19, 20

## 61300111121
designator J?, comment 2.54 mm_THT_Vertical_1 pin
Pin Header WR-PHD, pitch 2.54 mm, THT, Vertical, single row, 1 pin; Part Number: 61300111121; Rated Current: 3 A; Pin Number: 1; Pitch: 2.54 mm; Working Voltage: 250 VAC; Contact Resistance: 20 mOhm; Insulation Resistance: >1000 MOhm; ComponentLink1Description: Manufacturer; ComponentLink1URL: http://www.we-online.de; ComponentLink2Description: Datasheet; ComponentLink2URL: http://katalog.we-online.de/em/datasheet/6130xx11121.pdf; Published Date: Jan. 2018; Publisher: Wurth Elektronik; Operating Temperature: -40 to 105 degC; Mounting Technology: THT; Row Number: Single; Orientation: Vertical
footprint 61300111121
pins: 1

## 61300211021
designator J?, comment 2.54 mm_THT_Angled_2 pin
Pin Header WR-PHD, pitch 2.54 mm, THT, Angled, single row, 2 pin; Part Number: 61300211021; Rated Current: 3 A; Pin Number: 2; Pitch: 2.54 mm; Working Voltage: 250 VAC; Contact Resistance: 20 mOhm; Insulation Resistance: >1000 MOhm; ComponentLink1Description: Manufacturer; ComponentLink1URL: http://www.we-online.de; ComponentLink2Description: Datasheet; ComponentLink2URL: http://katalog.we-online.de/em/datasheet/6130xx11021.pdf; Published Date: Jan. 2018; Publisher: Wurth Elektronik; Operating Temperature: -40 to 105 degC; Mounting Technology: THT; Row Number: Single; Orientation: Angled
footprint 61300211021
pins: 1, 2

## 61300211121
designator J?, comment 2.54 mm_THT_Vertical_2 pin
Pin Header WR-PHD, pitch 2.54 mm, THT, Vertical, single row, 2 pin; Part Number: 61300211121; Rated Current: 3 A; Pin Number: 2; Pitch: 2.54 mm; Working Voltage: 250 VAC; Contact Resistance: 20 mOhm; Insulation Resistance: >1000 MOhm; ComponentLink1Description: Manufacturer; ComponentLink1URL: http://www.we-online.de; ComponentLink2Description: Datasheet; ComponentLink2URL: http://katalog.we-online.de/em/datasheet/6130xx11121.pdf; Published Date: Jan. 2018; Publisher: Wurth Elektronik; Operating Temperature: -40 to 105 degC; Mounting Technology: THT; Row Number: Single; Orientation: Vertical
footprint 61300211121
pins: 1, 2

## 61300311021
designator J?, comment 2.54 mm_THT_Angled_3 pin
Pin Header WR-PHD, pitch 2.54 mm, THT, Angled, single row, 3 pin; Part Number: 61300311021; Rated Current: 3 A; Pin Number: 3; Pitch: 2.54 mm; Working Voltage: 250 VAC; Contact Resistance: 20 mOhm; Insulation Resistance: >1000 MOhm; ComponentLink1Description: Manufacturer; ComponentLink1URL: http://www.we-online.de; ComponentLink2Description: Datasheet; ComponentLink2URL: http://katalog.we-online.de/em/datasheet/6130xx11021.pdf; Published Date: Jan. 2018; Publisher: Wurth Elektronik; Operating Temperature: -40 to 105 degC; Mounting Technology: THT; Row Number: Single; Orientation: Angled
footprint 61300311021
pins: 1, 2, 3

## 61300311121
designator J?, comment 2.54 mm_THT_Vertical_3 pin
Pin Header WR-PHD, pitch 2.54 mm, THT, Vertical, single row, 3 pin; Part Number: 61300311121; Rated Current: 3 A; Pin Number: 3; Pitch: 2.54 mm; Working Voltage: 250 VAC; Contact Resistance: 20 mOhm; Insulation Resistance: >1000 MOhm; ComponentLink1Description: Manufacturer; ComponentLink1URL: http://www.we-online.de; ComponentLink2Description: Datasheet; ComponentLink2URL: http://katalog.we-online.de/em/datasheet/6130xx11121.pdf; Published Date: Jan. 2018; Publisher: Wurth Elektronik; Operating Temperature: -40 to 105 degC; Mounting Technology: THT; Row Number: Single; Orientation: Vertical
footprint 61300311121
pins: 1, 2, 3

## 61300411021
designator J?, comment 2.54 mm_THT_Angled_4 pin
Pin Header WR-PHD, pitch 2.54 mm, THT, Angled, single row, 4 pin; Part Number: 61300411021; Rated Current: 3 A; Pin Number: 4; Pitch: 2.54 mm; Working Voltage: 250 VAC; Contact Resistance: 20 mOhm; Insulation Resistance: >1000 MOhm; ComponentLink1Description: Manufacturer; ComponentLink1URL: http://www.we-online.de; ComponentLink2Description: Datasheet; ComponentLink2URL: http://katalog.we-online.de/em/datasheet/6130xx11021.pdf; Published Date: Jan. 2018; Publisher: Wurth Elektronik; Operating Temperature: -40 to 105 degC; Mounting Technology: THT; Row Number: Single; Orientation: Angled
footprint 61300411021
pins: 1, 2, 3, 4

## 61300411121
designator J?, comment 2.54 mm_THT_Vertical_4 pin
Pin Header WR-PHD, pitch 2.54 mm, THT, Vertical, single row, 4 pin; Part Number: 61300411121; Rated Current: 3 A; Pin Number: 4; Pitch: 2.54 mm; Working Voltage: 250 VAC; Contact Resistance: 20 mOhm; Insulation Resistance: >1000 MOhm; ComponentLink1Description: Manufacturer; ComponentLink1URL: http://www.we-online.de; ComponentLink2Description: Datasheet; ComponentLink2URL: http://katalog.we-online.de/em/datasheet/6130xx11121.pdf; Published Date: Jan. 2018; Publisher: Wurth Elektronik; Operating Temperature: -40 to 105 degC; Mounting Technology: THT; Row Number: Single; Orientation: Vertical
footprint 61300411121
pins: 1, 2, 3, 4

## 61300421021
designator J?, comment 2.54 mm_THT_Angled_4 pin
Pin Header WR-PHD, pitch 2.54 mm, THT, Angled, dual row, 4 pin; Part Number: 61300421021; Rated Current: 3 A; Pin Number: 4; Pitch: 2.54 mm; Working Voltage: 250 VAC; Contact Resistance: 20 mOhm; Insulation Resistance: >1000 MOhm; ComponentLink1Description: Manufacturer; ComponentLink1URL: http://www.we-online.de; ComponentLink2Description: Datasheet; ComponentLink2URL: http://katalog.we-online.de/em/datasheet/6130xx21021.pdf; Published Date: Jan. 2018; Publisher: Wurth Elektronik; Operating Temperature: -40 to 105 degC; Mounting Technology: THT; Row Number: Dual; Orientation: Angled
footprint 61300421021
pins: 1, 2, 3, 4

## 61300421121
designator J?, comment 2.54 mm_THT_Vertical_4 pin
Pin Header WR-PHD, pitch 2.54 mm, THT, Vertical, dual row, 4 pin; Part Number: 61300421121; Rated Current: 3 A; Pin Number: 4; Pitch: 2.54 mm; Working Voltage: 250 VAC; Contact Resistance: 20 mOhm; Insulation Resistance: >1000 MOhm; ComponentLink1Description: Manufacturer; ComponentLink1URL: http://www.we-online.de; ComponentLink2Description: Datasheet; ComponentLink2URL: http://katalog.we-online.de/em/datasheet/6130xx21121.pdf; Published Date: Jan. 2018; Publisher: Wurth Elektronik; Operating Temperature: -40 to 105 degC; Mounting Technology: THT; Row Number: Dual; Orientation: Vertical
footprint 61300421121
pins: 1, 2, 3, 4

## 61300511021
designator J?, comment 2.54 mm_THT_Angled_5 pin
Pin Header WR-PHD, pitch 2.54 mm, THT, Angled, single row, 5 pin; Part Number: 61300511021; Rated Current: 3 A; Pin Number: 5; Pitch: 2.54 mm; Working Voltage: 250 VAC; Contact Resistance: 20 mOhm; Insulation Resistance: >1000 MOhm; ComponentLink1Description: Manufacturer; ComponentLink1URL: http://www.we-online.de; ComponentLink2Description: Datasheet; ComponentLink2URL: http://katalog.we-online.de/em/datasheet/6130xx11021.pdf; Published Date: Jan. 2018; Publisher: Wurth Elektronik; Operating Temperature: -40 to 105 degC; Mounting Technology: THT; Row Number: Single; Orientation: Angled
footprint 61300511021
pins: 1, 2, 3, 4, 5

## 61300511121
designator J?, comment 2.54 mm_THT_Vertical_5 pin
Pin Header WR-PHD, pitch 2.54 mm, THT, Vertical, single row, 5 pin; Part Number: 61300511121; Rated Current: 3 A; Pin Number: 5; Pitch: 2.54 mm; Working Voltage: 250 VAC; Contact Resistance: 20 mOhm; Insulation Resistance: >1000 MOhm; ComponentLink1Description: Manufacturer; ComponentLink1URL: http://www.we-online.de; ComponentLink2Description: Datasheet; ComponentLink2URL: http://katalog.we-online.de/em/datasheet/6130xx11121.pdf; Published Date: Jan. 2018; Publisher: Wurth Elektronik; Operating Temperature: -40 to 105 degC; Mounting Technology: THT; Row Number: Single; Orientation: Vertical
footprint 61300511121
pins: 1, 2, 3, 4, 5

## 61300611021
designator J?, comment 2.54 mm_THT_Angled_6 pin
Pin Header WR-PHD, pitch 2.54 mm, THT, Angled, single row, 6 pin; Part Number: 61300611021; Rated Current: 3 A; Pin Number: 6; Pitch: 2.54 mm; Working Voltage: 250 VAC; Contact Resistance: 20 mOhm; Insulation Resistance: >1000 MOhm; ComponentLink1Description: Manufacturer; ComponentLink1URL: http://www.we-online.de; ComponentLink2Description: Datasheet; ComponentLink2URL: http://katalog.we-online.de/em/datasheet/6130xx11021.pdf; Published Date: Jan. 2018; Publisher: Wurth Elektronik; Operating Temperature: -40 to 105 degC; Mounting Technology: THT; Row Number: Single; Orientation: Angled
footprint 61300611021
pins: 1, 2, 3, 4, 5, 6

## 61300611121
designator J?, comment 2.54 mm_THT_Vertical_6 pin
Pin Header WR-PHD, pitch 2.54 mm, THT, Vertical, single row, 6 pin; Part Number: 61300611121; Rated Current: 3 A; Pin Number: 6; Pitch: 2.54 mm; Working Voltage: 250 VAC; Contact Resistance: 20 mOhm; Insulation Resistance: >1000 MOhm; ComponentLink1Description: Manufacturer; ComponentLink1URL: http://www.we-online.de; ComponentLink2Description: Datasheet; ComponentLink2URL: http://katalog.we-online.de/em/datasheet/6130xx11121.pdf; Published Date: Jan. 2018; Publisher: Wurth Elektronik; Operating Temperature: -40 to 105 degC; Mounting Technology: THT; Row Number: Single; Orientation: Vertical
footprint 61300611121
pins: 1, 2, 3, 4, 5, 6

## 61300621021
designator J?, comment 2.54 mm_THT_Angled_6 pin
Pin Header WR-PHD, pitch 2.54 mm, THT, Angled, dual row, 6 pin; Part Number: 61300621021; Rated Current: 3 A; Pin Number: 6; Pitch: 2.54 mm; Working Voltage: 250 VAC; Contact Resistance: 20 mOhm; Insulation Resistance: >1000 MOhm; ComponentLink1Description: Manufacturer; ComponentLink1URL: http://www.we-online.de; ComponentLink2Description: Datasheet; ComponentLink2URL: http://katalog.we-online.de/em/datasheet/6130xx21021.pdf; Published Date: Jan. 2018; Publisher: Wurth Elektronik; Operating Temperature: -40 to 105 degC; Mounting Technology: THT; Row Number: Dual; Orientation: Angled
footprint 61300621021
pins: 1, 2, 3, 4, 5, 6

## 61300621121
designator J?, comment 2.54 mm_THT_Vertical_6 pin
Pin Header WR-PHD, pitch 2.54 mm, THT, Vertical, dual row, 6 pin; Part Number: 61300621121; Rated Current: 3 A; Pin Number: 6; Pitch: 2.54 mm; Working Voltage: 250 VAC; Contact Resistance: 20 mOhm; Insulation Resistance: >1000 MOhm; ComponentLink1Description: Manufacturer; ComponentLink1URL: http://www.we-online.de; ComponentLink2Description: Datasheet; ComponentLink2URL: http://katalog.we-online.de/em/datasheet/6130xx21121.pdf; Published Date: Jan. 2018; Publisher: Wurth Elektronik; Operating Temperature: -40 to 105 degC; Mounting Technology: THT; Row Number: Dual; Orientation: Vertical
footprint 61300621121
pins: 1, 2, 3, 4, 5, 6

## 61300711021
designator J?, comment 2.54 mm_THT_Angled_7 pin
Pin Header WR-PHD, pitch 2.54 mm, THT, Angled, single row, 7 pin; Part Number: 61300711021; Rated Current: 3 A; Pin Number: 7; Pitch: 2.54 mm; Working Voltage: 250 VAC; Contact Resistance: 20 mOhm; Insulation Resistance: >1000 MOhm; ComponentLink1Description: Manufacturer; ComponentLink1URL: http://www.we-online.de; ComponentLink2Description: Datasheet; ComponentLink2URL: http://katalog.we-online.de/em/datasheet/6130xx11021.pdf; Published Date: Jan. 2018; Publisher: Wurth Elektronik; Operating Temperature: -40 to 105 degC; Mounting Technology: THT; Row Number: Single; Orientation: Angled
footprint 61300711021
pins: 1, 2, 3, 4, 5, 6, 7

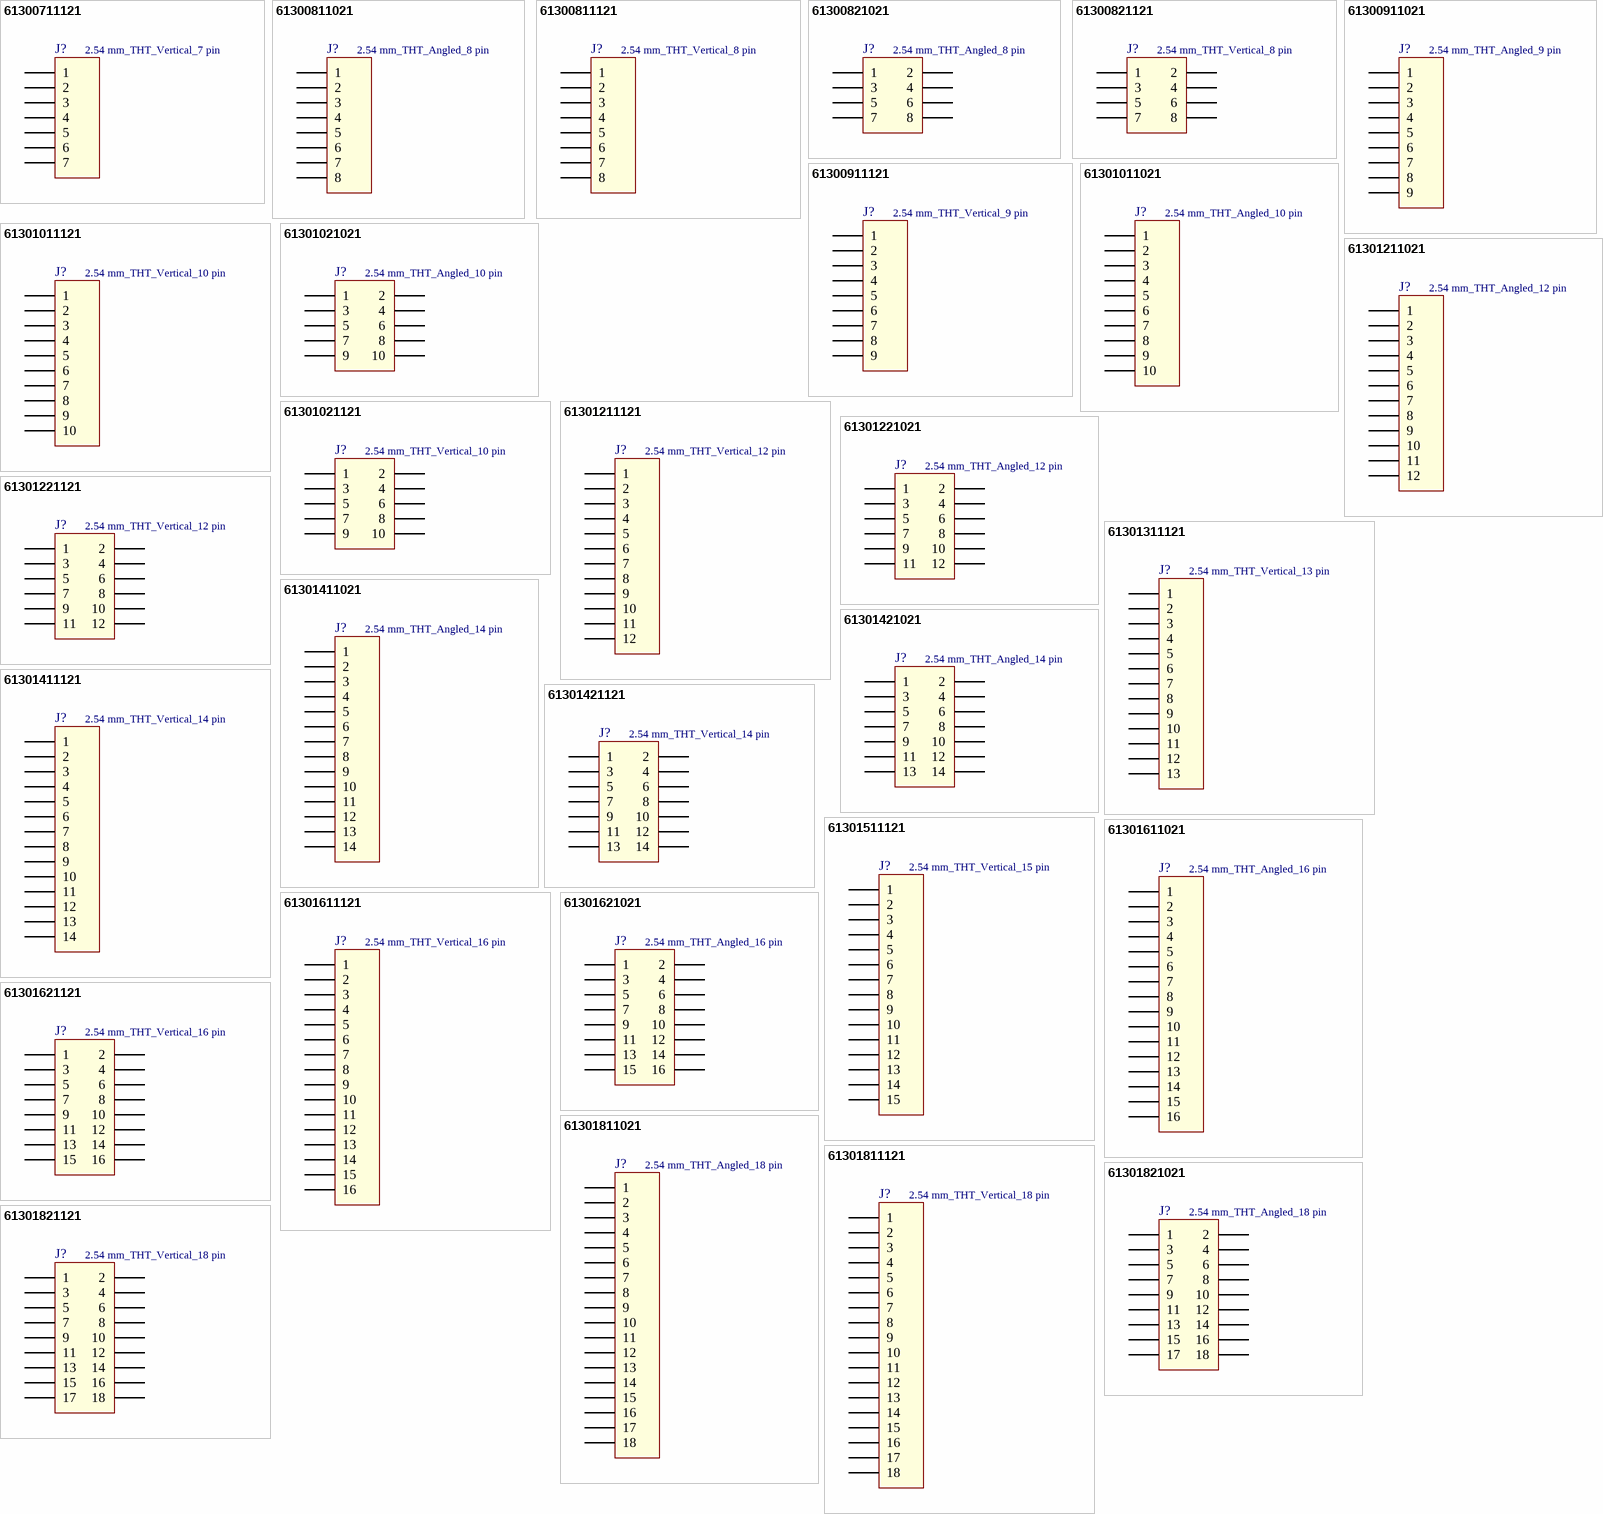
[diagram p2: symbols 61300711121 to 61301821121]

## 61300711121
designator J?, comment 2.54 mm_THT_Vertical_7 pin
Pin Header WR-PHD, pitch 2.54 mm, THT, Vertical, single row, 7 pin; Part Number: 61300711121; Rated Current: 3 A; Pin Number: 7; Pitch: 2.54 mm; Working Voltage: 250 VAC; Contact Resistance: 20 mOhm; Insulation Resistance: >1000 MOhm; ComponentLink1Description: Manufacturer; ComponentLink1URL: http://www.we-online.de; ComponentLink2Description: Datasheet; ComponentLink2URL: http://katalog.we-online.de/em/datasheet/6130xx11121.pdf; Published Date: Jan. 2018; Publisher: Wurth Elektronik; Operating Temperature: -40 to 105 degC; Mounting Technology: THT; Row Number: Single; Orientation: Vertical
footprint 61300711121
pins: 1, 2, 3, 4, 5, 6, 7

## 61300811021
designator J?, comment 2.54 mm_THT_Angled_8 pin
Pin Header WR-PHD, pitch 2.54 mm, THT, Angled, single row, 8 pin; Part Number: 61300811021; Rated Current: 3 A; Pin Number: 8; Pitch: 2.54 mm; Working Voltage: 250 VAC; Contact Resistance: 20 mOhm; Insulation Resistance: >1000 MOhm; ComponentLink1Description: Manufacturer; ComponentLink1URL: http://www.we-online.de; ComponentLink2Description: Datasheet; ComponentLink2URL: http://katalog.we-online.de/em/datasheet/6130xx11021.pdf; Published Date: Jan. 2018; Publisher: Wurth Elektronik; Operating Temperature: -40 to 105 degC; Mounting Technology: THT; Row Number: Single; Orientation: Angled
footprint 61300811021
pins: 1, 2, 3, 4, 5, 6, 7, 8

## 61300811121
designator J?, comment 2.54 mm_THT_Vertical_8 pin
Pin Header WR-PHD, pitch 2.54 mm, THT, Vertical, single row, 8 pin; Part Number: 61300811121; Rated Current: 3 A; Pin Number: 8; Pitch: 2.54 mm; Working Voltage: 250 VAC; Contact Resistance: 20 mOhm; Insulation Resistance: >1000 MOhm; ComponentLink1Description: Manufacturer; ComponentLink1URL: http://www.we-online.de; ComponentLink2Description: Datasheet; ComponentLink2URL: http://katalog.we-online.de/em/datasheet/6130xx11121.pdf; Published Date: Jan. 2018; Publisher: Wurth Elektronik; Operating Temperature: -40 to 105 degC; Mounting Technology: THT; Row Number: Single; Orientation: Vertical
footprint 61300811121
pins: 1, 2, 3, 4, 5, 6, 7, 8

## 61300821021
designator J?, comment 2.54 mm_THT_Angled_8 pin
Pin Header WR-PHD, pitch 2.54 mm, THT, Angled, dual row, 8 pin; Part Number: 61300821021; Rated Current: 3 A; Pin Number: 8; Pitch: 2.54 mm; Working Voltage: 250 VAC; Contact Resistance: 20 mOhm; Insulation Resistance: >1000 MOhm; ComponentLink1Description: Manufacturer; ComponentLink1URL: http://www.we-online.de; ComponentLink2Description: Datasheet; ComponentLink2URL: http://katalog.we-online.de/em/datasheet/6130xx21021.pdf; Published Date: Jan. 2018; Publisher: Wurth Elektronik; Operating Temperature: -40 to 105 degC; Mounting Technology: THT; Row Number: Dual; Orientation: Angled
footprint 61300821021
pins: 1, 2, 3, 4, 5, 6, 7, 8

## 61300821121
designator J?, comment 2.54 mm_THT_Vertical_8 pin
Pin Header WR-PHD, pitch 2.54 mm, THT, Vertical, dual row, 8 pin; Part Number: 61300821121; Rated Current: 3 A; Pin Number: 8; Pitch: 2.54 mm; Working Voltage: 250 VAC; Contact Resistance: 20 mOhm; Insulation Resistance: >1000 MOhm; ComponentLink1Description: Manufacturer; ComponentLink1URL: http://www.we-online.de; ComponentLink2Description: Datasheet; ComponentLink2URL: http://katalog.we-online.de/em/datasheet/6130xx21121.pdf; Published Date: Jan. 2018; Publisher: Wurth Elektronik; Operating Temperature: -40 to 105 degC; Mounting Technology: THT; Row Number: Dual; Orientation: Vertical
footprint 61300821121
pins: 1, 2, 3, 4, 5, 6, 7, 8

## 61300911021
designator J?, comment 2.54 mm_THT_Angled_9 pin
Pin Header WR-PHD, pitch 2.54 mm, THT, Angled, single row, 9 pin; Part Number: 61300911021; Rated Current: 3 A; Pin Number: 9; Pitch: 2.54 mm; Working Voltage: 250 VAC; Contact Resistance: 20 mOhm; Insulation Resistance: >1000 MOhm; ComponentLink1Description: Manufacturer; ComponentLink1URL: http://www.we-online.de; ComponentLink2Description: Datasheet; ComponentLink2URL: http://katalog.we-online.de/em/datasheet/6130xx11021.pdf; Published Date: Jan. 2018; Publisher: Wurth Elektronik; Operating Temperature: -40 to 105 degC; Mounting Technology: THT; Row Number: Single; Orientation: Angled
footprint 61300911021
pins: 1, 2, 3, 4, 5, 6, 7, 8, 9

## 61300911121
designator J?, comment 2.54 mm_THT_Vertical_9 pin
Pin Header WR-PHD, pitch 2.54 mm, THT, Vertical, single row, 9 pin; Part Number: 61300911121; Rated Current: 3 A; Pin Number: 9; Pitch: 2.54 mm; Working Voltage: 250 VAC; Contact Resistance: 20 mOhm; Insulation Resistance: >1000 MOhm; ComponentLink1Description: Manufacturer; ComponentLink1URL: http://www.we-online.de; ComponentLink2Description: Datasheet; ComponentLink2URL: http://katalog.we-online.de/em/datasheet/6130xx11121.pdf; Published Date: Jan. 2018; Publisher: Wurth Elektronik; Operating Temperature: -40 to 105 degC; Mounting Technology: THT; Row Number: Single; Orientation: Vertical
footprint 61300911121
pins: 1, 2, 3, 4, 5, 6, 7, 8, 9

## 61301011021
designator J?, comment 2.54 mm_THT_Angled_10 pin
Pin Header WR-PHD, pitch 2.54 mm, THT, Angled, single row, 10 pin; Part Number: 61301011021; Rated Current: 3 A; Pin Number: 10; Pitch: 2.54 mm; Working Voltage: 250 VAC; Contact Resistance: 20 mOhm; Insulation Resistance: >1000 MOhm; ComponentLink1Description: Manufacturer; ComponentLink1URL: http://www.we-online.de; ComponentLink2Description: Datasheet; ComponentLink2URL: http://katalog.we-online.de/em/datasheet/6130xx11021.pdf; Published Date: Jan. 2018; Publisher: Wurth Elektronik; Operating Temperature: -40 to 105 degC; Mounting Technology: THT; Row Number: Single; Orientation: Angled
footprint 61301011021
pins: 1, 2, 3, 4, 5, 6, 7, 8, 9, 10

## 61301011121
designator J?, comment 2.54 mm_THT_Vertical_10 pin
Pin Header WR-PHD, pitch 2.54 mm, THT, Vertical, single row, 10 pin; Part Number: 61301011121; Rated Current: 3 A; Pin Number: 10; Pitch: 2.54 mm; Working Voltage: 250 VAC; Contact Resistance: 20 mOhm; Insulation Resistance: >1000 MOhm; ComponentLink1Description: Manufacturer; ComponentLink1URL: http://www.we-online.de; ComponentLink2Description: Datasheet; ComponentLink2URL: http://katalog.we-online.de/em/datasheet/6130xx11121.pdf; Published Date: Jan. 2018; Publisher: Wurth Elektronik; Operating Temperature: -40 to 105 degC; Mounting Technology: THT; Row Number: Single; Orientation: Vertical
footprint 61301011121
pins: 1, 2, 3, 4, 5, 6, 7, 8, 9, 10

## 61301021021
designator J?, comment 2.54 mm_THT_Angled_10 pin
Pin Header WR-PHD, pitch 2.54 mm, THT, Angled, dual row, 10 pin; Part Number: 61301021021; Rated Current: 3 A; Pin Number: 10; Pitch: 2.54 mm; Working Voltage: 250 VAC; Contact Resistance: 20 mOhm; Insulation Resistance: >1000 MOhm; ComponentLink1Description: Manufacturer; ComponentLink1URL: http://www.we-online.de; ComponentLink2Description: Datasheet; ComponentLink2URL: http://katalog.we-online.de/em/datasheet/6130xx21021.pdf; Published Date: Jan. 2018; Publisher: Wurth Elektronik; Operating Temperature: -40 to 105 degC; Mounting Technology: THT; Row Number: Dual; Orientation: Angled
footprint 61301021021
pins: 1, 2, 3, 4, 5, 6, 7, 8, 9, 10

## 61301021121
designator J?, comment 2.54 mm_THT_Vertical_10 pin
Pin Header WR-PHD, pitch 2.54 mm, THT, Vertical, dual row, 10 pin; Part Number: 61301021121; Rated Current: 3 A; Pin Number: 10; Pitch: 2.54 mm; Working Voltage: 250 VAC; Contact Resistance: 20 mOhm; Insulation Resistance: >1000 MOhm; ComponentLink1Description: Manufacturer; ComponentLink1URL: http://www.we-online.de; ComponentLink2Description: Datasheet; ComponentLink2URL: http://katalog.we-online.de/em/datasheet/6130xx21121.pdf; Published Date: Jan. 2018; Publisher: Wurth Elektronik; Operating Temperature: -40 to 105 degC; Mounting Technology: THT; Row Number: Dual; Orientation: Vertical
footprint 61301021121
pins: 1, 2, 3, 4, 5, 6, 7, 8, 9, 10